# Altium integrated library DC-DC CONVERTER.IntLib: 3 symbols
Pins are listed as number, name and electrical type; pins without a type are passive.

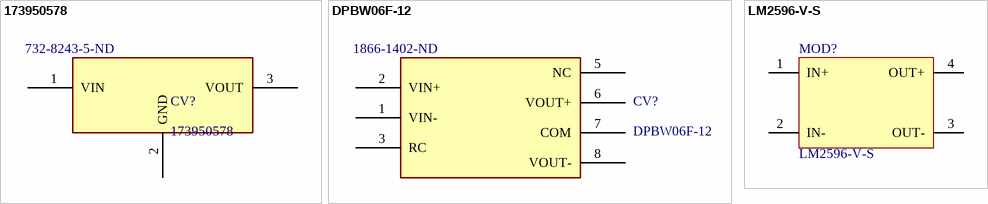
[diagram p0: symbols 173950578 to LM2596-V-S]

## 173950578
designator CV?  Supplier Part Number 1: 732-8243-5-ND
Linear Regulator Replacement DC DC Converter 1 Output 5V 500mA 6V - 28V Input; Supplier 1: Digi-Key
footprint 173950578
pins: 1 VIN, 2 GND, 3 VOUT

## DPBW06F-12
designator CV?  Supplier Part Number 1: 1866-1402-ND
DC DC CONVERTER +/-12V 6W; Supplier 1: Digi-Key
footprint DPBW06F-12
pins: 1 VIN-, 2 VIN+, 3 RC, 5 NC, 6 VOUT+, 7 COM, 8 VOUT-

## LM2596-V-S
designator MOD?
Fuente suicheada variable LM2596; Value: LM2596-V-S
footprint LM2596-V-S
pins: 1 IN+, 2 IN-, 3 OUT-, 4 OUT+